# Altium footprint library EM.PcbLib: 9 footprints
Each footprint in its own frame and in the unit in brackets; x right, y up, seen from the top. Pads: shape width x height; smd on the part's side, far side on the other; paste and mask are expansions set on the pad; w line width, h text height; cw(c..) or ccw(c..) is an arc to the next point about the centre after c.
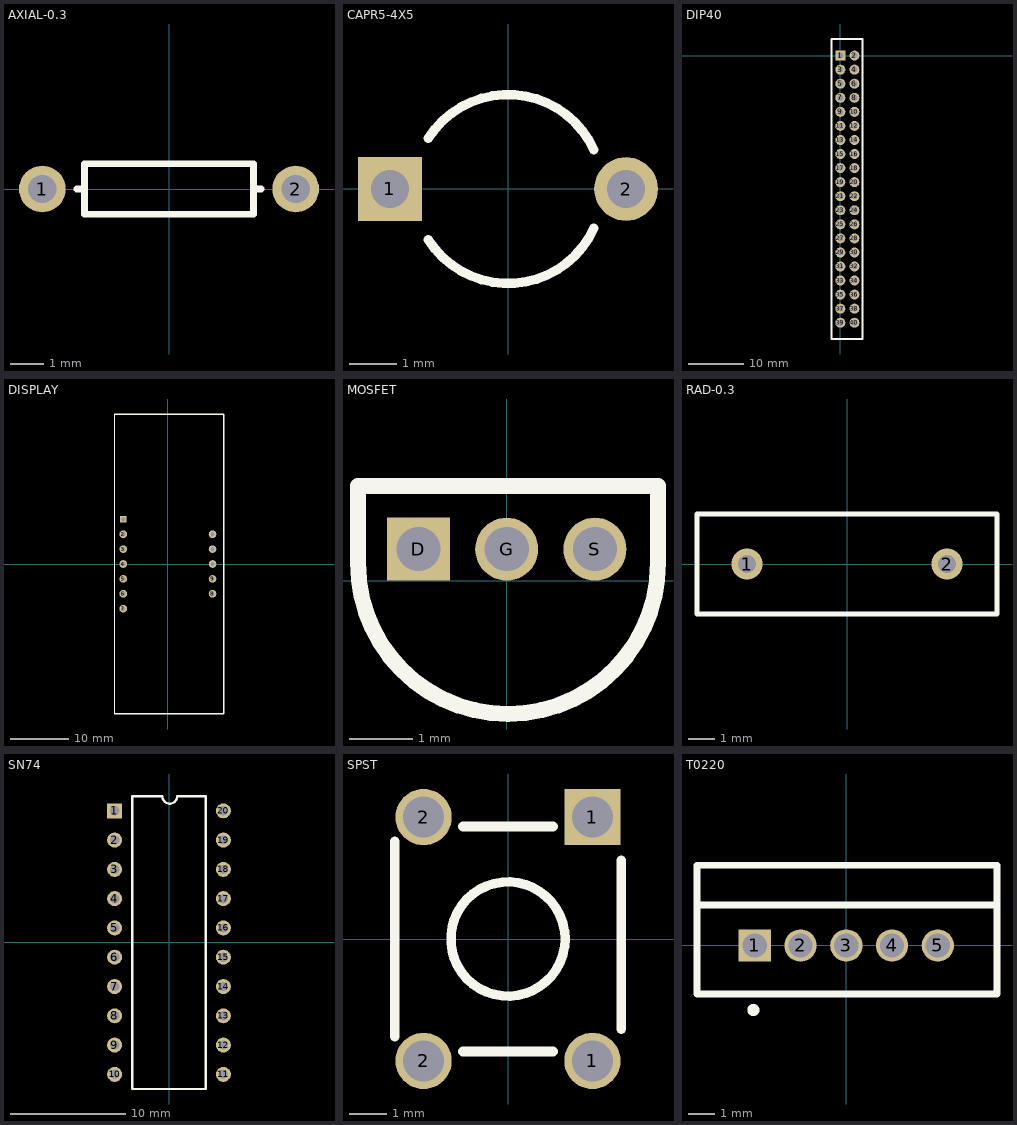
[diagram p0: the footprints below, top view; thin cyan lines are the x and y axes]

## AXIAL-0.3 [mm] "Axial Device, Thru-Hole; 2 Leads; 0.3 in Pin Spacing"
height 1.524
pads (2):
  round 1.4 hole 0.85: 1(-3.81,0) 2(3.81,0)
Top Overlay:
  lines w0.2: -2.769,0 -2.54,0 ; 2.769,0 2.54,0 ; 2.54,0 2.54,-0.762 -2.54,-0.762 -2.54,0.762 2.54,0.762 2.54,0

## CAPR5-4X5 [mm] "Capacitor; 2 Leads"
height 12
pads (2):
  rect 1.35x1.35 hole 0.8: 1(-2.5,0)
  round 1.35 hole 0.8: 2(2.5,0)
Top Overlay:
  lines w0.2: -1.687,-1.075 ccw(c0,0) 1.819,-0.832 ; -1.687,1.075 cw(c0,0) 1.819,0.832

## DIP40 [mm]
pads (40):
  rect 1.8x1.8 hole 1.1: 1(0,0)
  round 1.8 hole 1.1: 2(2.54,0) 3(0,-2.54) 4(2.54,-2.54) 5(0,-5.08) 6(2.54,-5.08) 7(0,-7.62) 8(2.54,-7.62) 9(0,-10.16) 10(2.54,-10.16) 11(0,-12.7) 12(2.54,-12.7) 13(0,-15.24) 14(2.54,-15.24) 15(0,-17.78) 16(2.54,-17.78) 17(0,-20.32) 18(2.54,-20.32) 19(0,-22.86) 20(2.54,-22.86) 21(0,-25.4) 22(2.54,-25.4) 23(0,-27.94) 24(2.54,-27.94) 25(0,-30.48) 26(2.54,-30.48) 27(0,-33.02) 28(2.54,-33.02) 29(0,-35.56) 30(2.54,-35.56) 31(0,-38.1) 32(2.54,-38.1) 33(0,-40.64) 34(2.54,-40.64) 35(0,-43.18) 36(2.54,-43.18) 37(0,-45.72) 38(2.54,-45.72) 39(0,-48.26) 40(2.54,-48.26)
Top Overlay:
  lines w0.4: 0.635,3 4,3 4,-51.2 -1.6,-51.2 -1.6,3 1.9,3

## DISPLAY [mm]
pads (12):
  rect 1.1x1.1 hole 0.75: 1(-7.62,7.62)
  round 1.3 hole 0.75: 2(-7.62,5.08) 3(-7.62,2.54) 4(-7.62,0) 5(-7.62,-2.54) 6(-7.62,-5.08) 7(-7.62,-7.62) 8(7.62,-5.08) 9(7.62,-2.54) 10(7.62,0) 11(7.62,2.54) 12(7.62,5.08)
Top Overlay:
  lines w0.2: -9.181,-25.6 -9.181,25.6
  lines w0.254: -9.15,25.6 9.56,25.6 9.56,-25.6 -9.13,-25.6

## MOSFET [mm] "TO-92"
pads (3):
  rect 1x1 hole 0.7: D(-1.4,0.5)
  round 1 hole 0.7: G(0,0.5) S(1.4,0.5)
Top Overlay:
  lines w0.254: -2.36,0.287 ccw(c0.02,0.264) 2.4,0.287 2.4,1.5 -2.36,1.5 -2.36,0.287

## RAD-0.3 [mm] "Radial Cap, Thru-Hole; 2 Leads; 0.3 in Pin Spacing"
height 6
pads (2):
  round 1.2 hole 0.7: 1(-3.81,0) 2(3.81,0)
Top Overlay:
  lines w0.2: -5.715,-1.905 5.715,-1.905 5.715,1.905 -5.715,1.905 -5.715,-1.905

## SN74 [mm]
pads (20):
  rect 1.3x1.3 hole 0.8: 1(-4.715,11.4)
  round 1.3 hole 0.8: 2(-4.715,8.86) 3(-4.715,6.32) 4(-4.715,3.78) 5(-4.715,1.24) 6(-4.715,-1.3) 7(-4.715,-3.84) 8(-4.715,-6.38) 9(-4.715,-8.92) 10(-4.715,-11.46) 11(4.715,-11.46) 12(4.715,-8.92) 13(4.715,-6.38) 14(4.715,-3.84) 15(4.715,-1.3) 16(4.715,1.24) 17(4.715,3.78) 18(4.715,6.32) 19(4.715,8.86) 20(4.715,11.4)
Top Overlay:
  lines w0.2: -3.175,12.67 -3.175,-12.73 3.175,-12.73 3.175,12.67 ; -3.165,12.67 -0.65,12.67 ; -0.57,12.67 ccw(c0.065,12.657) 0.7,12.67 3.16,12.67

## SPST [mm]
pads (4):
  round 1.5 hole 1.1: 1(2.25,-3.25) 2(-2.25,-3.25) 2(-2.25,3.25)
  rect 1.5x1.5 hole 1.1: 1(2.25,3.25)
Top Overlay:
  circle w0.254: c0,0 r1.523
  lines w0.254: -3.025,-2.6 -3.025,0.575 -3.025,2.6 ; -1.2,-3 1.2,-3 ; -1.2,3 1.2,3 ; 3.025,-2.4 3.025,2.1

## T0220 [mm]
height 12
pads (5):
  rect 1.2x1.2 hole 0.9: 1(-3.4,0)
  round 1.2 hole 0.9: 2(-1.7,0) 3(0,0) 4(1.7,0) 5(3.4,0)
Top Overlay:
  circle w0.254: c-3.454,-2.4 r0.1
  lines w0.254: -5.55,1.5 5.475,1.5 ; -5.55,-1.8 5.6,-1.8 5.6,2.979 -5.55,2.979 -5.55,-1.8